# EAGLE library part JST10 (library we-con)
JST Connector
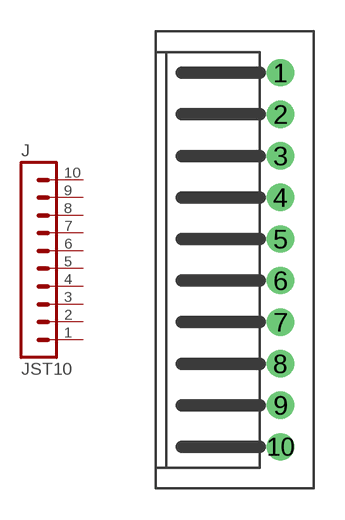
[diagram p40: symbol with the pads of JST_S10B-PH-K; footprint JST_S10B-PH-K]

Designator prefix J

## JST10-S10B-PH-K  [JST_S10B-PH-K]
1  1  pas
2  2  pas
3  3  pas
4  4  pas
5  5  pas
6  6  pas
7  7  pas
8  8  pas
9  9  pas
10  10  pas

## Footprint JST_S10B-PH-K (pad centres in mm)
Side Entry -K - normal insertion force / -KL - low insertion force
drill 0.8 pad 1.3: 1 0,9; 2 0,7; 3 0,5; 4 0,3; 5 0,1; 6 0,-1; 7 0,-3; 8 0,-5; 9 0,-7; 10 0,-9